# EAGLE library part SPARTAN3_MICROMODULE (library untitled)
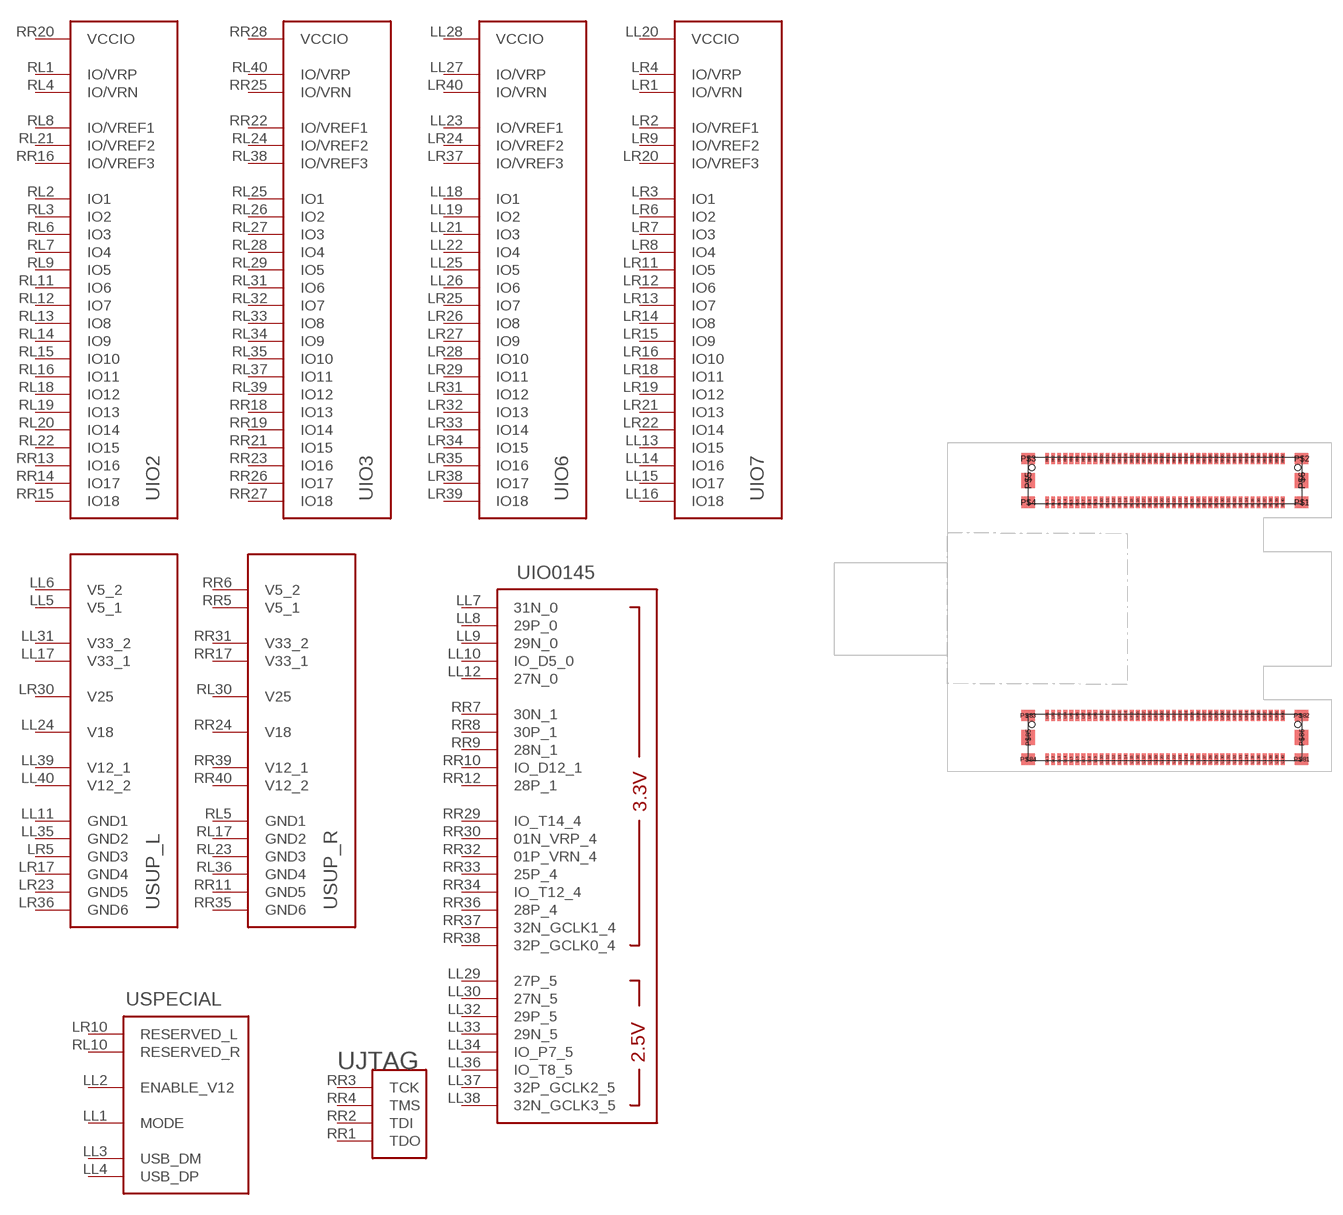
[diagram p0: symbol with the pads of SPARTAN3_USB_BOARD; footprint SPARTAN3_USB_BOARD]

Designator prefix -; gates IO2=MICROMODULE_IO_BANK IO3=MICROMODULE_IO_BANK IO6=MICROMODULE_IO_BANK IO7=MICROMODULE_IO_BANK JTAG=JTAG SUP_L=MICROMODULE_SUPPLY SUP_R=MICROMODULE_SUPPLY SPECIAL=MICROMODULE_SPECIAL IO0145=MICROMODULE_IO0145

## SPARTAN3_MICROMODULE  [SPARTAN3_USB_BOARD]
LL1  SPECIAL:MODE  in
LL2  SPECIAL:ENABLE_V12  in
LL3  SPECIAL:USB_DM  in
LL4  SPECIAL:USB_DP  in
LL5  SUP_L:V5_1  pwr
LL6  SUP_L:V5_2  pwr
LL7  IO0145:31N_0
LL8  IO0145:29P_0
LL9  IO0145:29N_0
LL10  IO0145:IO_D5_0
LL11  SUP_L:GND1  pwr
LL12  IO0145:27N_0
LL13  IO7:IO15
LL14  IO7:IO16
LL15  IO7:IO17
LL16  IO7:IO18
LL17  SUP_L:V33_1  pwr
LL18  IO6:IO1
LL19  IO6:IO2
LL20  IO7:VCCIO  pwr
LL21  IO6:IO3
LL22  IO6:IO4
LL23  IO6:IO/VREF1
LL24  SUP_L:V18  pwr
LL25  IO6:IO5
LL26  IO6:IO6
LL27  IO6:IO/VRP
LL28  IO6:VCCIO  pwr
LL29  IO0145:27P_5
LL30  IO0145:27N_5
LL31  SUP_L:V33_2  pwr
LL32  IO0145:29P_5
LL33  IO0145:29N_5
LL34  IO0145:IO_P7_5
LL35  SUP_L:GND2  pwr
LL36  IO0145:IO_T8_5
LL37  IO0145:32P_GCLK2_5
LL38  IO0145:32N_GCLK3_5
LL39  SUP_L:V12_1  pwr
LL40  SUP_L:V12_2  pwr
LR1  IO7:IO/VRN
LR2  IO7:IO/VREF1
LR3  IO7:IO1
LR4  IO7:IO/VRP
LR5  SUP_L:GND3  pwr
LR6  IO7:IO2
LR7  IO7:IO3
LR8  IO7:IO4
LR9  IO7:IO/VREF2
LR10  SPECIAL:RESERVED_L  nc
LR11  IO7:IO5
LR12  IO7:IO6
LR13  IO7:IO7
LR14  IO7:IO8
LR15  IO7:IO9
LR16  IO7:IO10
LR17  SUP_L:GND4  pwr
LR18  IO7:IO11
LR19  IO7:IO12
LR20  IO7:IO/VREF3
LR21  IO7:IO13
LR22  IO7:IO14
LR23  SUP_L:GND5  pwr
LR24  IO6:IO/VREF2
LR25  IO6:IO7
LR26  IO6:IO8
LR27  IO6:IO9
LR28  IO6:IO10
LR29  IO6:IO11
LR30  SUP_L:V25  pwr
LR31  IO6:IO12
LR32  IO6:IO13
LR33  IO6:IO14
LR34  IO6:IO15
LR35  IO6:IO16
LR36  SUP_L:GND6  pwr
LR37  IO6:IO/VREF3
LR38  IO6:IO17
LR39  IO6:IO18
LR40  IO6:IO/VRN
RL1  IO2:IO/VRP
RL2  IO2:IO1
RL3  IO2:IO2
RL4  IO2:IO/VRN
RL5  SUP_R:GND1  pwr
RL6  IO2:IO3
RL7  IO2:IO4
RL8  IO2:IO/VREF1
RL9  IO2:IO5
RL10  SPECIAL:RESERVED_R  nc
RL11  IO2:IO6
RL12  IO2:IO7
RL13  IO2:IO8
RL14  IO2:IO9
RL15  IO2:IO10
RL16  IO2:IO11
RL17  SUP_R:GND2  pwr
RL18  IO2:IO12
RL19  IO2:IO13
RL20  IO2:IO14
RL21  IO2:IO/VREF2
RL22  IO2:IO15
RL23  SUP_R:GND3  pwr
RL24  IO3:IO/VREF2
RL25  IO3:IO1
RL26  IO3:IO2
RL27  IO3:IO3
RL28  IO3:IO4
RL29  IO3:IO5
RL30  SUP_R:V25  pwr
RL31  IO3:IO6
RL32  IO3:IO7
RL33  IO3:IO8
RL34  IO3:IO9
RL35  IO3:IO10
RL36  SUP_R:GND4  pwr
RL37  IO3:IO11
RL38  IO3:IO/VREF3
RL39  IO3:IO12
RL40  IO3:IO/VRP
RR1  JTAG:TDO  out
RR2  JTAG:TDI  in
RR3  JTAG:TCK  in
RR4  JTAG:TMS  in
RR5  SUP_R:V5_1  pwr
RR6  SUP_R:V5_2  pwr
RR7  IO0145:30N_1
RR8  IO0145:30P_1
RR9  IO0145:28N_1
RR10  IO0145:IO_D12_1
RR11  SUP_R:GND5  pwr
RR12  IO0145:28P_1
RR13  IO2:IO16
RR14  IO2:IO17
RR15  IO2:IO18
RR16  IO2:IO/VREF3
RR17  SUP_R:V33_1  pwr
RR18  IO3:IO13
RR19  IO3:IO14
RR20  IO2:VCCIO  pwr
RR21  IO3:IO15
RR22  IO3:IO/VREF1
RR23  IO3:IO16
RR24  SUP_R:V18  pwr
RR25  IO3:IO/VRN
RR26  IO3:IO17
RR27  IO3:IO18
RR28  IO3:VCCIO  pwr
RR29  IO0145:IO_T14_4
RR30  IO0145:01N_VRP_4
RR31  SUP_R:V33_2  pwr
RR32  IO0145:01P_VRN_4
RR33  IO0145:25P_4
RR34  IO0145:IO_T12_4
RR35  SUP_R:GND6  pwr
RR36  IO0145:28P_4
RR37  IO0145:32N_GCLK1_4
RR38  IO0145:32P_GCLK0_4
RR39  SUP_R:V12_1  pwr
RR40  SUP_R:V12_2  pwr

## Footprint SPARTAN3_USB_BOARD (pad centres in mm)
smd 0.5 x 1.5: LL1 -15.6,-19.9; LL2 -14.8,-19.9; LL3 -14,-19.9; LL4 -13.2,-19.9; LL5 -12.4,-19.9; LL6 -11.6,-19.9; LL7 -10.8,-19.9; LL8 -10,-19.9; LL9 -9.2,-19.9; LL10 -8.4,-19.9; LL11 -7.6,-19.9; LL12 -6.8,-19.9; LL13 -6,-19.9; LL14 -5.2,-19.9; LL15 -4.4,-19.9; LL16 -3.6,-19.9; LL17 -2.8,-19.9; LL18 -2,-19.9; LL19 -1.2,-19.9; LL20 -0.4,-19.9; LL21 0.4,-19.9; LL22 1.2,-19.9; LL23 2,-19.9; LL24 2.8,-19.9; LL25 3.6,-19.9; LL26 4.4,-19.9; LL27 5.2,-19.9; LL28 6,-19.9; LL29 6.8,-19.9; LL30 7.6,-19.9; LL31 8.4,-19.9; LL32 9.2,-19.9; LL33 10,-19.9; LL34 10.8,-19.9; LL35 11.6,-19.9; LL36 12.4,-19.9; LL37 13.2,-19.9; LL38 14,-19.9; LL39 14.8,-19.9; LL40 15.6,-19.9; LR1 -15.6,-14.1; LR2 -14.8,-14.1; LR3 -14,-14.1; LR4 -13.2,-14.1; LR5 -12.4,-14.1; LR6 -11.6,-14.1; LR7 -10.8,-14.1; LR8 -10,-14.1; LR9 -9.2,-14.1; LR10 -8.4,-14.1; LR11 -7.6,-14.1; LR12 -6.8,-14.1; LR13 -6,-14.1; LR14 -5.2,-14.1; LR15 -4.4,-14.1; LR16 -3.6,-14.1; LR17 -2.8,-14.1; LR18 -2,-14.1; LR19 -1.2,-14.1; LR20 -0.4,-14.1; LR21 0.4,-14.1; LR22 1.2,-14.1; LR23 2,-14.1; LR24 2.8,-14.1; LR25 3.6,-14.1; LR26 4.4,-14.1; LR27 5.2,-14.1; LR28 6,-14.1; LR29 6.8,-14.1; LR30 7.6,-14.1; LR31 8.4,-14.1; LR32 9.2,-14.1; LR33 10,-14.1; LR34 10.8,-14.1; LR35 11.6,-14.1; LR36 12.4,-14.1; LR37 13.2,-14.1; LR38 14,-14.1; LR39 14.8,-14.1; LR40 15.6,-14.1; RL1 -15.6,14.1; RL2 -14.8,14.1; RL3 -14,14.1; RL4 -13.2,14.1; RL5 -12.4,14.1; RL6 -11.6,14.1; RL7 -10.8,14.1; RL8 -10,14.1; RL9 -9.2,14.1; RL10 -8.4,14.1; RL11 -7.6,14.1; RL12 -6.8,14.1; RL13 -6,14.1; RL14 -5.2,14.1; RL15 -4.4,14.1; RL16 -3.6,14.1; RL17 -2.8,14.1; RL18 -2,14.1; RL19 -1.2,14.1; RL20 -0.4,14.1; RL21 0.4,14.1; RL22 1.2,14.1; RL23 2,14.1; RL24 2.8,14.1; RL25 3.6,14.1; RL26 4.4,14.1; RL27 5.2,14.1; RL28 6,14.1; RL29 6.8,14.1; RL30 7.6,14.1; RL31 8.4,14.1; RL32 9.2,14.1; RL33 10,14.1; RL34 10.8,14.1; RL35 11.6,14.1; RL36 12.4,14.1; RL37 13.2,14.1; RL38 14,14.1; RL39 14.8,14.1; RL40 15.6,14.1; RR1 -15.6,19.9; RR2 -14.8,19.9; RR3 -14,19.9; RR4 -13.2,19.9; RR5 -12.4,19.9; RR6 -11.6,19.9; RR7 -10.8,19.9; RR8 -10,19.9; RR9 -9.2,19.9; RR10 -8.4,19.9; RR11 -7.6,19.9; RR12 -6.8,19.9; RR13 -6,19.9; RR14 -5.2,19.9; RR15 -4.4,19.9; RR16 -3.6,19.9; RR17 -2.8,19.9; RR18 -2,19.9; RR19 -1.2,19.9; RR20 -0.4,19.9; RR21 0.4,19.9; RR22 1.2,19.9; RR23 2,19.9; RR24 2.8,19.9; RR25 3.6,19.9; RR26 4.4,19.9; RR27 5.2,19.9; RR28 6,19.9; RR29 6.8,19.9; RR30 7.6,19.9; RR31 8.4,19.9; RR32 9.2,19.9; RR33 10,19.9; RR34 10.8,19.9; RR35 11.6,19.9; RR36 12.4,19.9; RR37 13.2,19.9; RR38 14,19.9; RR39 14.8,19.9; RR40 15.6,19.9
smd 1.8 x 1.5: P$1 18.1,14.1; P$2 18.1,19.9; P$3 -18.1,19.9; P$4 -18.1,14.1; P$81 18.1,-19.9; P$82 18.1,-14.1; P$83 -18.1,-14.1; P$84 -18.1,-19.9
smd 1.8 x 2: P$5 -18.1,17; P$6 18.1,17; P$85 -18.1,-17; P$86 18.1,-17
hole 0.8 at -17.6,-15.3
hole 0.8 at 17.6,-15.3
hole 0.8 at -17.6,18.7
hole 0.8 at 17.6,18.7